# Altium integrated library NSC Interface.IntLib: 481 symbols (part 16 of 16)
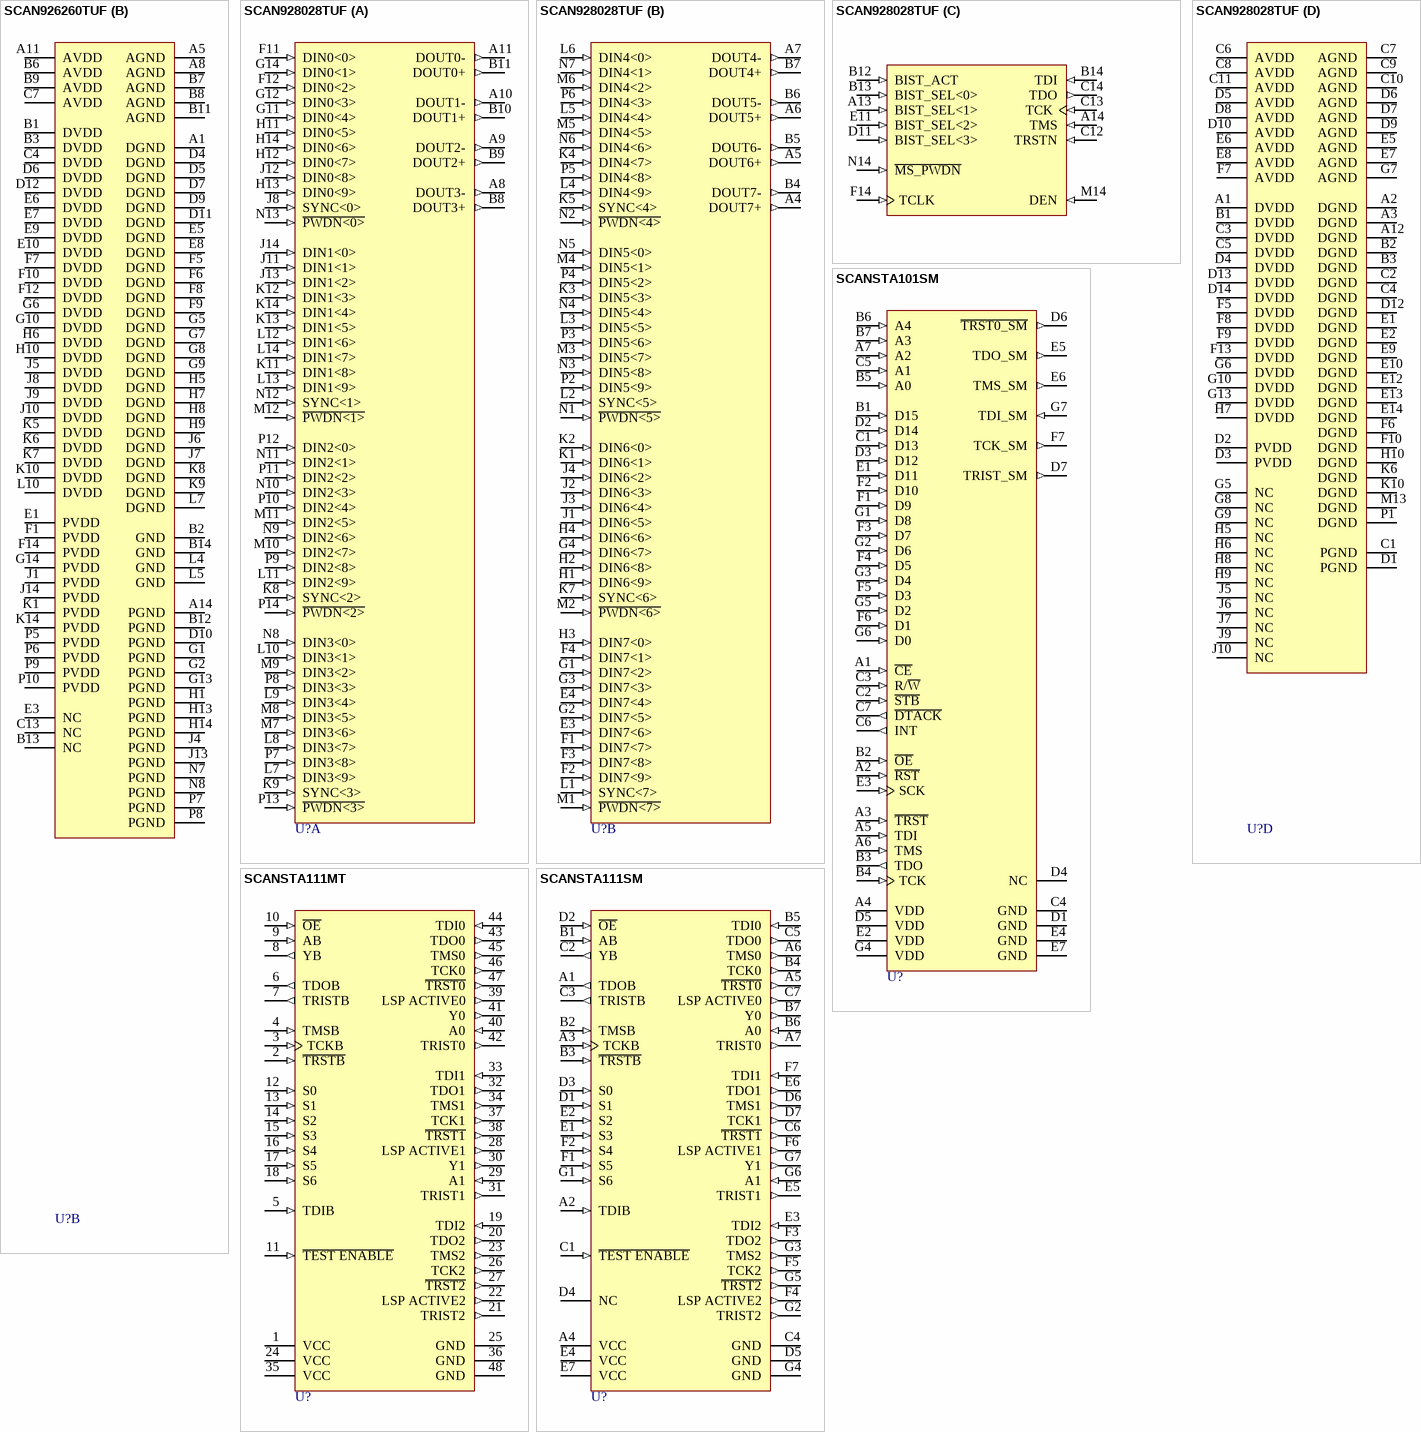
[diagram p55: symbols SCAN926260TUF to SCANSTA111SM]

## SCANSTA101SM
designator U?
Low Voltage IEEE 1149.1 STA Master; PartNumber: SCANSTA101SM; Manufacturer: National Semiconductor; CompType: Interface IC; PackageTopMarking: NSUZXYTT*SCANSTA101*SM; Published: 4-Dec-2008; DatasheetVersion: Nov-2006; PackageVersion: revB, Jan, 2003; PackageReference: SLC49A; Publisher: Altium Limited; PackageDescription: FBGA, Plastic, Laminated, 7 x 7 x 1.4mm Body, 49 Ball, 0.8mm Pitch; RoHS: O; PinCount: 49; DigiKeyPartNumber: SCANSTA101SM-ND; ComponentLink1Description: SCANSTA101 Datasheet; ComponentLink1URL: http://www.national.com/ds/SC/SCANSTA101.pdf; ComponentLink2Description: SCANSTA101 Web Page; ComponentLink2URL: http://www.national.com/pf/SC/SCANSTA101.html; ComponentLink3Description: SLC49A Package Page; ComponentLink3URL: http://www.national.com/packaging/folders/slc49a.html
footprint SLC49A (BGA, 49-Leads, Body 7x7mm, Pitch 0.8mm)
pins: A1 ~{CE} (in), A2 ~{RST} (in), A3 ~{TRST} (in), A4 VDD (power), A5 TDI (in), A6 TMS (in), A7 A2 (in), B1 D15 (in), B2 ~{OE} (in), B3 TDO (out), B4 TCK (in), B5 A0 (in), B6 A4 (in), B7 A3 (in), C1 D13 (in), C2 ~{STB} (in), C3 R/~{W} (in), C4 GND (power), C5 A1 (in), C6 INT (out), C7 ~{DTACK} (out), D1 GND (power), D2 D14 (in), D3 D12 (in), D4 NC, D5 VDD (power), D6 ~{TRST0_SM} (out), D7 TRIST_SM (out), E1 D11 (in), E2 VDD (power), E3 SCK (in), E4 GND (power), E5 TDO_SM (out), E6 TMS_SM (out), E7 GND (power), F1 D9 (in), F2 D10 (in), F3 D7 (in), F4 D5 (in), F5 D3 (in), F6 D1 (in), F7 TCK_SM (out), G1 D8 (in), G2 D6 (in), G3 D4 (in), G4 VDD (power), G5 D2 (in), G6 D0 (in), G7 TDI_SM (in)

## SCANSTA111MT
designator U?
Enhanced SCAN bridge Multidrop Addressable IEEE 1149.1 (JTAG) Port; PartNumber: SCANSTA111MT; Manufacturer: National Semiconductor; CompType: Interface IC; PackageTopMarking: NSUZXYTT*SCANSTA111MT; Published: 4-Dec-2008; DatasheetVersion: Oct-2005; PackageVersion: revE, Apr-2003; PackageReference: MTD48; Publisher: Altium Limited; PackageDescription: Molded TSSOP, Jedec, 12.5 x 6.1 x 0.9mm Body, 48 Lead, 0.50mm Pitch; RoHS: O; PinCount: 48; DigiKeyPartNumber: SCANSTA111MT-ND; Code_JEDEC: MO-153-ED; ComponentLink1Description: SCANSTA111 Datasheet; ComponentLink1URL: http://www.national.com/ds/SC/SCANSTA111.pdf; ComponentLink2Description: SCANSTA111 Web Page; ComponentLink2URL: http://www.national.com/pf/SC/SCANSTA111.html; ComponentLink3Description: MTD48 Package Page; ComponentLink3URL: http://www.national.com/packaging/folders/mtd48.html
footprint MTD48_N (TSSOP, 48-Leads, Body 12.5x6.1mm, Pitch 0.5mm, IPC Medium Density)
footprint MTD48_L (TSSOP, 48-Leads, Body 12.5x6.1mm, Pitch 0.5mm, IPC High Density)
footprint MTD48_M (TSSOP, 48-Leads, Body 12.5x6.1mm, Pitch 0.5mm, IPC Low Density)
pins: 1 VCC (power), 2 ~{TRSTB} (in), 3 TCKB (in), 4 TMSB (in), 5 TDIB (in), 6 TDOB (out), 7 TRISTB (out), 8 YB (out), 9 AB (in), 10 ~{OE} (in), 11 ~{TEST ENABLE} (in), 12 S0 (in), 13 S1 (in), 14 S2 (in), 15 S3 (in), 16 S4 (in), 17 S5 (in), 18 S6 (in), 19 TDI2 (in), 20 TDO2 (out), 21 TRIST2 (out), 22 LSP ACTIVE2 (out), 23 TMS2 (out), 24 VCC (power), 25 GND (power), 26 TCK2 (out), 27 ~{TRST2} (out), 28 LSP ACTIVE1 (out), 29 A1 (in), 30 Y1 (out), 31 TRIST1 (out), 32 TDO1 (out), 33 TDI1 (in), 34 TMS1 (out), 35 VCC (power), 36 GND (power), 37 TCK1 (out), 38 ~{TRST1} (out), 39 LSP ACTIVE0 (out), 40 A0 (in), 41 Y0 (out), 42 TRIST0 (out), 43 TDO0 (out), 44 TDI0 (in), 45 TMS0 (out), 46 TCK0 (out), 47 ~{TRST0} (out), 48 GND (power)

## SCANSTA111SM
designator U?
Enhanced SCAN bridge Multidrop Addressable IEEE 1149.1 (JTAG) Port; PartNumber: SCANSTA111SM; Manufacturer: National Semiconductor; CompType: Interface IC; PackageTopMarking: NSUZXYTT*SCANSTA111*SM; Published: 4-Dec-2008; DatasheetVersion: Oct-2005; PackageVersion: revB, Jan, 2003; PackageReference: SLC49A; Publisher: Altium Limited; PackageDescription: FBGA, Plastic, Laminated, 7 x 7 x 1.4mm Body, 49 Ball, 0.8mm Pitch; RoHS: O; PinCount: 49; DigiKeyPartNumber: SCANSTA111SM-ND; ComponentLink1Description: SCANSTA111 Datasheet; ComponentLink1URL: http://www.national.com/ds/SC/SCANSTA111.pdf; ComponentLink2Description: SCANSTA111 Web Page; ComponentLink2URL: http://www.national.com/pf/SC/SCANSTA111.html; ComponentLink3Description: SLC49A Package Page; ComponentLink3URL: http://www.national.com/packaging/folders/slc49a.html
footprint SLC49A (BGA, 49-Leads, Body 7x7mm, Pitch 0.8mm)
pins: A1 TDOB (out), A2 TDIB (in), A3 TCKB (in), A4 VCC (power), A5 ~{TRST0} (out), A6 TMS0 (out), A7 TRIST0 (out), B1 AB (in), B2 TMSB (in), B3 ~{TRSTB} (in), B4 TCK0 (out), B5 TDI0 (in), B6 A0 (in), B7 Y0 (out), C1 ~{TEST ENABLE} (in), C2 YB (out), C3 TRISTB (out), C4 GND (power), C5 TDO0 (out), C6 ~{TRST1} (out), C7 LSP ACTIVE0 (out), D1 S1 (in), D2 ~{OE} (in), D3 S0 (in), D4 NC, D5 GND (power), D6 TMS1 (out), D7 TCK1 (out), E1 S3 (in), E2 S2 (in), E3 TDI2 (in), E4 VCC (power), E5 TRIST1 (out), E6 TDO1 (out), E7 VCC (power), F1 S5 (in), F2 S4 (in), F3 TDO2 (out), F4 LSP ACTIVE2 (out), F5 TCK2 (out), F6 LSP ACTIVE1 (out), F7 TDI1 (in), G1 S6 (in), G2 TRIST2 (out), G3 TMS2 (out), G4 GND (power), G5 ~{TRST2} (out), G6 A1 (in), G7 Y1 (out)

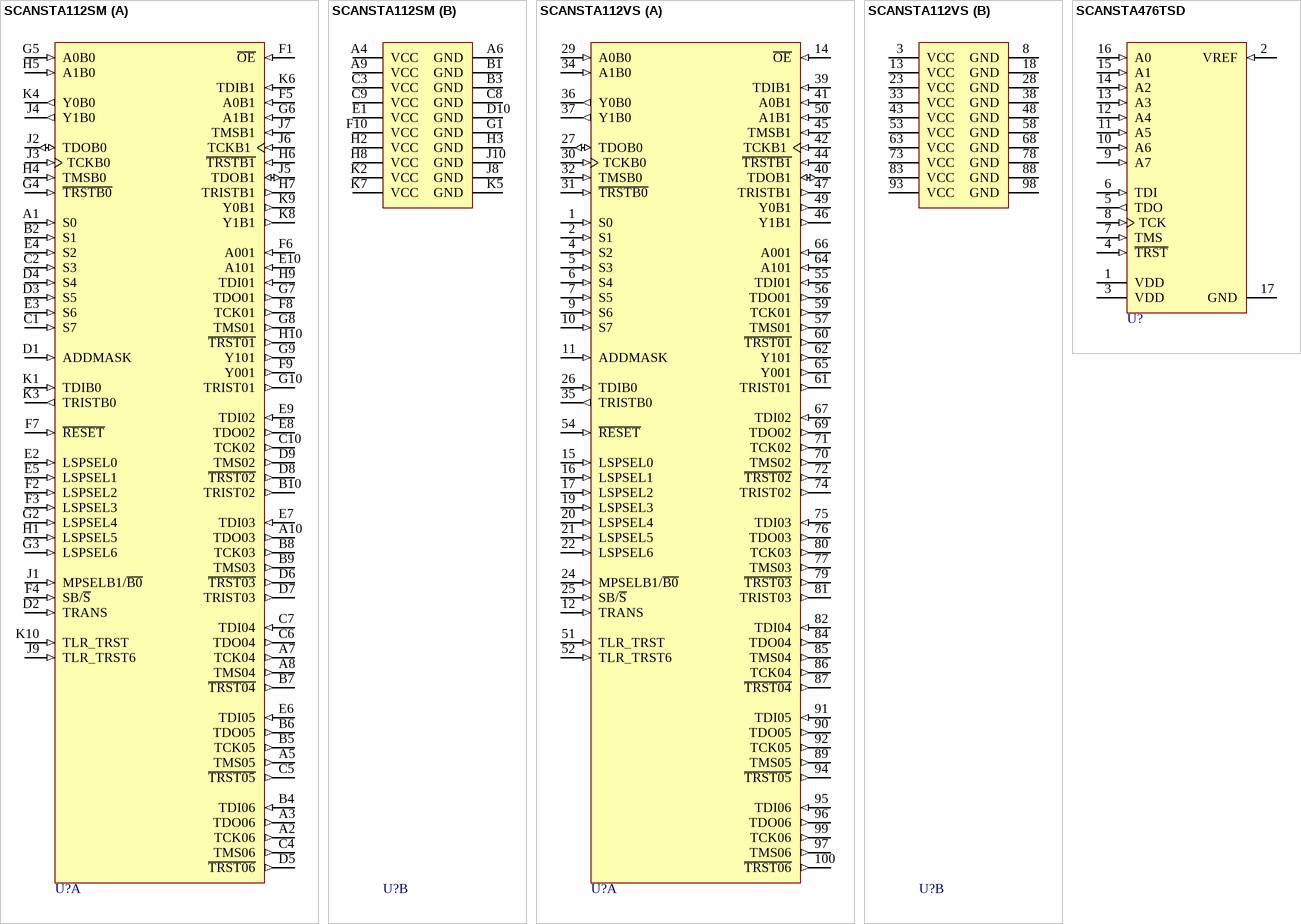
[diagram p40: symbols SCANSTA112SM to SCANSTA476TSD]

## SCANSTA112SM
designator U?
7-port Multidrop IEEE 1149.1 (JTAG) Multiplexer; PartNumber: SCANSTA112SM; Manufacturer: National Semiconductor; CompType: Interface IC; PackageTopMarking: NSUZXYTT*SCANSTA112*SM; Published: 4-Dec-2008; DatasheetVersion: Oct-2005; PackageVersion: revB, Mar-1999; PackageReference: SLC100A; Publisher: Altium Limited; PackageDescription: FBGA, Plastic Laminated, .8mm Pitch, 10 x 10 x 1.4mm, 100 Ball; RoHS: O; PinCount: 100; DigiKeyPartNumber: SCANSTA112SM-ND; ComponentLink1Description: SCANSTA112 Datasheet; ComponentLink1URL: http://www.national.com/ds/SC/SCANSTA112.pdf; ComponentLink2Description: SCANSTA112 Web Page; ComponentLink2URL: http://www.national.com/pf/SC/SCANSTA112.html; ComponentLink3Description: SLC100A Package Page; ComponentLink3URL: http://www.national.com/packaging/folders/slc100a.html
footprint SLC100A (BGA, 100-Leads, Body 10x10mm, Pitch 0.8mm)
part A pins: A1 S0 (in), A2 TCK06 (out), A3 TDO06 (out), A5 TMS05 (out), A7 TCK04 (out), A8 TMS04 (out), A10 TDO03 (out), B2 S1 (in), B4 TDI06 (in), B5 TCK05 (out), B6 TDO05 (out), B7 ~{TRST04} (out), B8 TCK03 (out), B9 TMS03 (out), B10 TRIST02 (out), C1 S7 (in), C2 S3 (in), C4 TMS06 (out), C5 ~{TRST05} (out), C6 TDO04 (out), C7 TDI04 (in), C10 TCK02 (out), D1 ADDMASK (in), D2 TRANS (in), D3 S5 (in), D4 S4 (in), D5 ~{TRST06} (out), D6 ~{TRST03} (out), D7 TRIST03 (out), D8 ~{TRST02} (out), D9 TMS02 (out), E2 LSPSEL0 (in), E3 S6 (in), E4 S2 (in), E5 LSPSEL1 (in), E6 TDI05 (in), E7 TDI03 (in), E8 TDO02 (out), E9 TDI02 (in), E10 A101 (in), F1 ~{OE} (in), F2 LSPSEL2 (in), F3 LSPSEL3 (in), F4 SB/~{S} (in), F5 A0B1 (in), F6 A001 (in), F7 ~{RESET} (in), F8 TCK01 (out), F9 Y001 (out), G2 LSPSEL4 (in), G3 LSPSEL6 (in), G4 ~{TRSTB0} (in), G5 A0B0 (in), G6 A1B1 (in), G7 TDO01 (out), G8 TMS01 (out), G9 Y101 (out), G10 TRIST01 (out), H1 LSPSEL5 (in), H4 TMSB0 (in), H5 A1B0 (in), H6 ~{TRSTB1} (in), H7 TRISTB1 (out), H9 TDI01 (in), H10 ~{TRST01} (out), J1 MPSELB1/~{B0} (in), J2 TDOB0 (io), J3 TCKB0 (in), J4 Y1B0 (out), J5 TDOB1 (io), J6 TCKB1 (in), J7 TMSB1 (in), J9 TLR_TRST6 (in), K1 TDIB0 (in), K3 TRISTB0 (out), K4 Y0B0 (out), K6 TDIB1 (in), K8 Y1B1 (out), K9 Y0B1 (out), K10 TLR_TRST (in)
part B pins: A4 VCC (power), A6 GND (power), A9 VCC (power), B1 GND (power), B3 GND (power), C3 VCC (power), C8 GND (power), C9 VCC (power), D10 GND (power), E1 VCC (power), F10 VCC (power), G1 GND (power), H2 VCC (power), H3 GND (power), H8 VCC (power), J8 GND (power), J10 GND (power), K2 VCC (power), K5 GND (power), K7 VCC (power)

## SCANSTA112VS
designator U?
7-port Multidrop IEEE 1149.1 (JTAG) Multiplexer; PartNumber: SCANSTA112VS; Manufacturer: National Semiconductor; CompType: Interface IC; PackageTopMarking: NSUZXYYTT*SCANSTA112*VS; Published: 4-Dec-2008; DatasheetVersion: Oct-2005; PackageVersion: revC, May-2004; PackageReference: VJD100A; Publisher: Altium Limited; PackageDescription: TQFP, Jedec, Metric, 14 x 14 x 1.0mm, 100 Lead; RoHS: O; PinCount: 100; DigiKeyPartNumber: SCANSTA112VS-ND; Code_JEDEC: MS-026-AED; ComponentLink1Description: SCANSTA112 Datasheet; ComponentLink1URL: http://www.national.com/ds/SC/SCANSTA112.pdf; ComponentLink2Description: SCANSTA112 Web Page; ComponentLink2URL: http://www.national.com/pf/SC/SCANSTA112.html; ComponentLink3Description: VJD100A Package Page; ComponentLink3URL: http://www.national.com/packaging/folders/vjd100a.html
footprint VJD100A_N (Thin QFP, 100-Leads, Body 14x14mm, Pitch 0.5mm, IPC Medium Density)
footprint VJD100A_L (Thin QFP, 100-Leads, Body 14x14mm, Pitch 0.5mm, IPC High Density)
footprint VJD100A_M (Thin QFP, 100-Leads, Body 14x14mm, Pitch 0.5mm, IPC Low Density)
part A pins: 1 S0 (in), 2 S1 (in), 4 S2 (in), 5 S3 (in), 6 S4 (in), 7 S5 (in), 9 S6 (in), 10 S7 (in), 11 ADDMASK (in), 12 TRANS (in), 14 ~{OE} (in), 15 LSPSEL0 (in), 16 LSPSEL1 (in), 17 LSPSEL2 (in), 19 LSPSEL3 (in), 20 LSPSEL4 (in), 21 LSPSEL5 (in), 22 LSPSEL6 (in), 24 MPSELB1/~{B0} (in), 25 SB/~{S} (in), 26 TDIB0 (in), 27 TDOB0 (io), 29 A0B0 (in), 30 TCKB0 (in), 31 ~{TRSTB0} (in), 32 TMSB0 (in), 34 A1B0 (in), 35 TRISTB0 (out), 36 Y0B0 (out), 37 Y1B0 (out), 39 TDIB1 (in), 40 TDOB1 (io), 41 A0B1 (in), 42 TCKB1 (in), 44 ~{TRSTB1} (in), 45 TMSB1 (in), 46 Y1B1 (out), 47 TRISTB1 (out), 49 Y0B1 (out), 50 A1B1 (in), 51 TLR_TRST (in), 52 TLR_TRST6 (in), 54 ~{RESET} (in), 55 TDI01 (in), 56 TDO01 (out), 57 TMS01 (out), 59 TCK01 (out), 60 ~{TRST01} (out), 61 TRIST01 (out), 62 Y101 (out), 64 A101 (in), 65 Y001 (out), 66 A001 (in), 67 TDI02 (in), 69 TDO02 (out), 70 TMS02 (out), 71 TCK02 (out), 72 ~{TRST02} (out), 74 TRIST02 (out), 75 TDI03 (in), 76 TDO03 (out), 77 TMS03 (out), 79 ~{TRST03} (out), 80 TCK03 (out), 81 TRIST03 (out), 82 TDI04 (in), 84 TDO04 (out), 85 TMS04 (out), 86 TCK04 (out), 87 ~{TRST04} (out), 89 TMS05 (out), 90 TDO05 (out), 91 TDI05 (in), 92 TCK05 (out), 94 ~{TRST05} (out), 95 TDI06 (in), 96 TDO06 (out), 97 TMS06 (out), 99 TCK06 (out), 100 ~{TRST06} (out)
part B pins: 3 VCC (power), 8 GND (power), 13 VCC (power), 18 GND (power), 23 VCC (power), 28 GND (power), 33 VCC (power), 38 GND (power), 43 VCC (power), 48 GND (power), 53 VCC (power), 58 GND (power), 63 VCC (power), 68 GND (power), 73 VCC (power), 78 GND (power), 83 VCC (power), 88 GND (power), 93 VCC (power), 98 GND (power)

## SCANSTA476TSD
designator U?
Eight Input IEEE 1149.1 Analog Voltage Monitor; PartNumber: SCANSTA476TSD; Manufacturer: National Semiconductor; CompType: Interface IC; PackageTopMarking: NS*UZXYTT*STA476T; Published: 4-Dec-2008; DatasheetVersion: Aug-2005; PackageVersion: revA, May-2003; PackageReference: SDA16A; Publisher: Altium Limited; PackageDescription: LLP, Plastic, Dual, 5 x 5 x 0.8mm Body, 16 Lead, 0.5mm Pitch, No Pullback; RoHS: Y; PinCount: 16; DigiKeyPartNumber: SCANSTA476TSDTR-ND; ComponentLink1Description: SCANSTA476 Datasheet; ComponentLink1URL: http://www.national.com/ds/SC/SCANSTA476.pdf; ComponentLink2Description: SCANSTA476 Web Page; ComponentLink2URL: http://www.national.com/pf/SC/SCANSTA476.html; ComponentLink3Description: SDA16A Package Page; ComponentLink3URL: http://www.national.com/packaging/folders/sda16a.html
footprint SDA16A (SON, 16-Leads, Body 5x5mm, Pitch 0.5mm, NSC Recommended)
pins: 1 VDD (power), 2 VREF (in), 3 VDD (power), 4 ~{TRST} (in), 5 TDO (out), 6 TDI (in), 7 TMS (in), 8 TCK (in), 9 A7 (in), 10 A6 (in), 11 A5 (in), 12 A4 (in), 13 A3 (in), 14 A2 (in), 15 A1 (in), 16 A0 (in), 17 GND (power)